# Altium footprint library RES_100R_0603.PcbLib: 1 footprints
Each footprint in its own frame and in the unit in brackets; x right, y up, seen from the top. Pads: shape width x height; smd on the part's side, far side on the other; paste and mask are expansions set on the pad; w line width, h text height; cw(c..) or ccw(c..) is an arc to the next point about the centre after c.
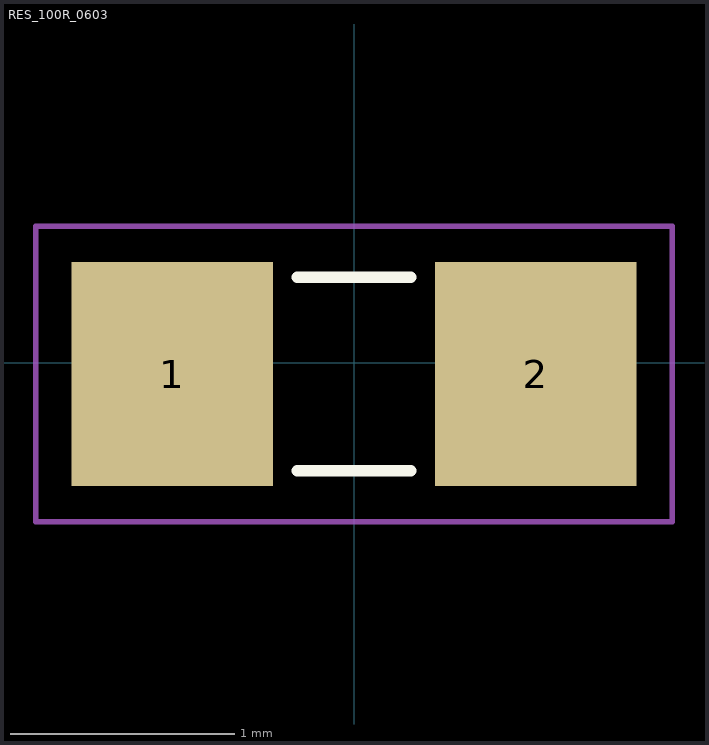
[diagram p0: the footprint, top view; thin cyan lines are the x and y axes]

## RES_100R_0603 [mm] "RES 100 OHM 1% 1/4W 0603"
pads (2):
  rect 0.9x1 smd: 1(-0.813,-0.051) 2(0.813,-0.051)
Top Overlay:
  lines w0.051: -0.254,-0.483 0.254,-0.483 ; -0.254,0.381 0.254,0.381
Assembly Notes:
  lines w0.025: -1.422,-0.711 1.422,-0.711 1.422,0.61 -1.422,0.61 -1.422,-0.711
  text ".designator" at -1.397,-0.186 h0.64
3D body "RES_10K_0603.step": height 0.71, standoff 0, extent -0.8,-0.457 0.8,0.355